# EAGLE library part HDC1080 (library OpenMotics)
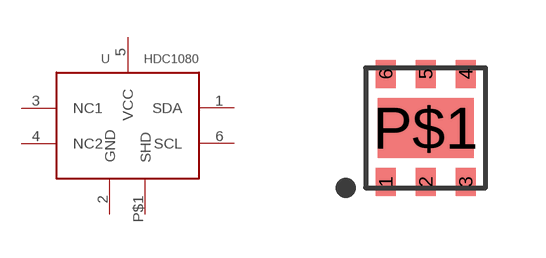
[diagram p39: symbol with the pads of PWSON_N6; footprint PWSON_N6]

Designator prefix U

## HDC1080  [PWSON_N6]
1  SDA
2  GND
3  NC1
4  NC2
5  VCC
6  SCL
P$1  SHD

## Footprint PWSON_N6 (pad centres in mm)
smd 0.5 x 0.7: 1 -1,-1.35; 2 0,-1.35; 3 1,-1.35; 4 1,1.35; 5 0,1.35; 6 -1,1.35
smd 2.4 x 1.5: P$1 0,0